# EAGLE library part ICX24P (library Diverse)
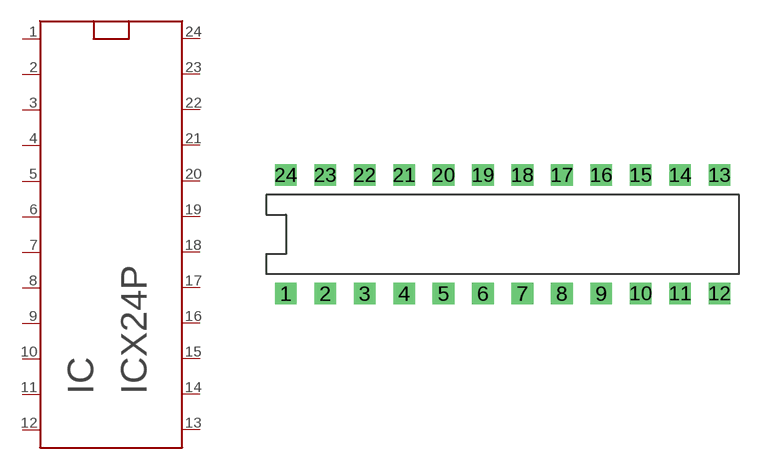
[diagram p6: symbol with the pads of DIL24; footprint DIL24]

Designator prefix IC

## ICX24P  [DIL24]
1  P$1
2  P$2
3  P$3
4  P$4
5  P$5
6  P$6
7  P$7
8  P$8
9  P$9
10  P$10
11  P$11
12  P$12
13  P$13
14  P$14
15  P$15
16  P$16
17  P$17
18  P$18
19  P$19
20  P$20
21  P$21
22  P$22
23  P$23
24  P$24

## Footprint DIL24 (pad centres in mm)
drill 0.8 pad 1.397 square: 1 0,0; 2 2.54,0; 3 5.08,0; 4 7.62,0; 5 10.16,0; 6 12.7,0; 7 15.24,0; 8 17.78,0; 9 20.32,0; 10 22.86,0; 11 25.4,0; 12 27.94,0; 13 27.94,7.62; 14 25.4,7.62; 15 22.86,7.62; 16 20.32,7.62; 17 17.78,7.62; 18 15.24,7.62; 19 12.7,7.62; 20 10.16,7.62; 21 7.62,7.62; 22 5.08,7.62; 23 2.54,7.62; 24 0,7.62